# EAGLE library part 10PIN (library Headers)
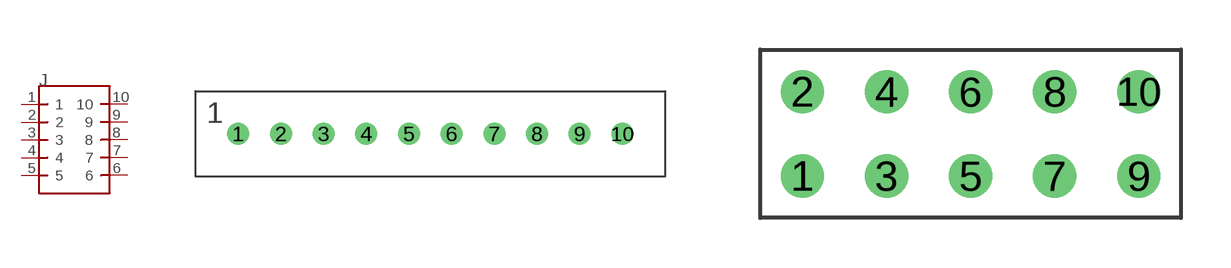
[diagram p4: symbol with the pads of 2.54MM1X10TH; footprints 2.54MM1X10TH, 2.54MM2X5TH]

Designator prefix J

## 10PIN2.54MM1X10TH  [2.54MM1X10TH]
1  1
2  2
3  3
4  4
5  5
6  6
7  7
8  8
9  9
10  10

## 10PIN2.54MM2X5TH  [2.54MM2X5TH]
Pads as for 2.54MM1X10TH

## Footprint 2.54MM1X10TH (pad centres in mm)
drill 0.8: 1 0,0; 2 2.54,0; 3 5.08,0; 4 7.62,0; 5 10.16,0; 6 12.7,0; 7 15.24,0; 8 17.78,0; 9 20.32,0; 10 22.86,0

## Footprint 2.54MM2X5TH (pad centres in mm)
drill 0.8: 1 0,0; 2 0,2.54; 3 2.54,0; 4 2.54,2.54; 5 5.08,0; 6 5.08,2.54; 7 7.62,0; 8 7.62,2.54; 9 10.16,0; 10 10.16,2.54